# Altium schematic symbol library EFM32GG12B8xx.SchLib: 1 symbol
Pins are listed as number, name and electrical type; pins without a type are passive.

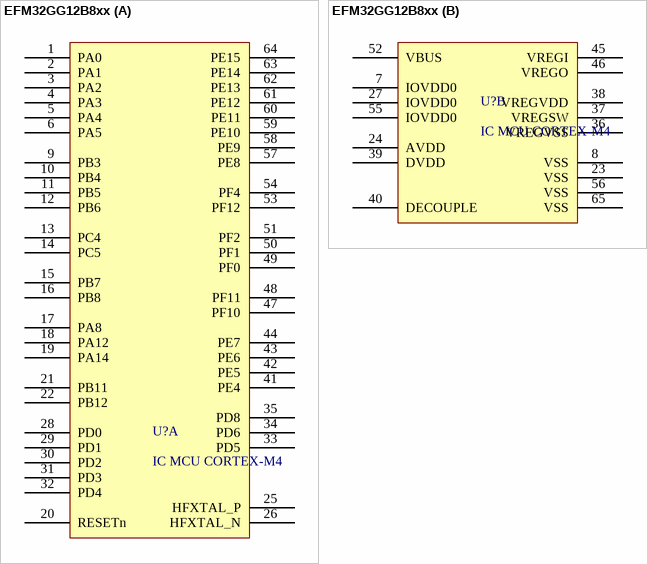
[diagram p0: symbol EFM32GG12B8xx]

## EFM32GG12B8xx
designator U?, comment IC MCU CORTEX-M4
part A pins: 1 PA0, 2 PA1, 3 PA2, 4 PA3, 5 PA4, 6 PA5, 9 PB3, 10 PB4, 11 PB5, 12 PB6, 13 PC4, 14 PC5, 15 PB7, 16 PB8, 17 PA8, 18 PA12, 19 PA14, 20 RESETn, 21 PB11, 22 PB12, 25 HFXTAL_P, 26 HFXTAL_N, 28 PD0, 29 PD1, 30 PD2, 31 PD3, 32 PD4, 33 PD5, 34 PD6, 35 PD8, 41 PE4, 42 PE5, 43 PE6, 44 PE7, 47 PF10, 48 PF11, 49 PF0, 50 PF1, 51 PF2, 53 PF12, 54 PF4, 57 PE8, 58 PE9, 59 PE10, 60 PE11, 61 PE12, 62 PE13, 63 PE14, 64 PE15
part B pins: 7 IOVDD0, 8 VSS, 23 VSS, 24 AVDD, 27 IOVDD0, 36 VREGVSS, 37 VREGSW, 38 VREGVDD, 39 DVDD, 40 DECOUPLE, 45 VREGI, 46 VREGO, 52 VBUS, 55 IOVDD0, 56 VSS, 65 VSS